# Altium schematic symbol library Inductors.SchLib: 24 symbols
Pins are listed as number, name and electrical type; pins without a type are passive.

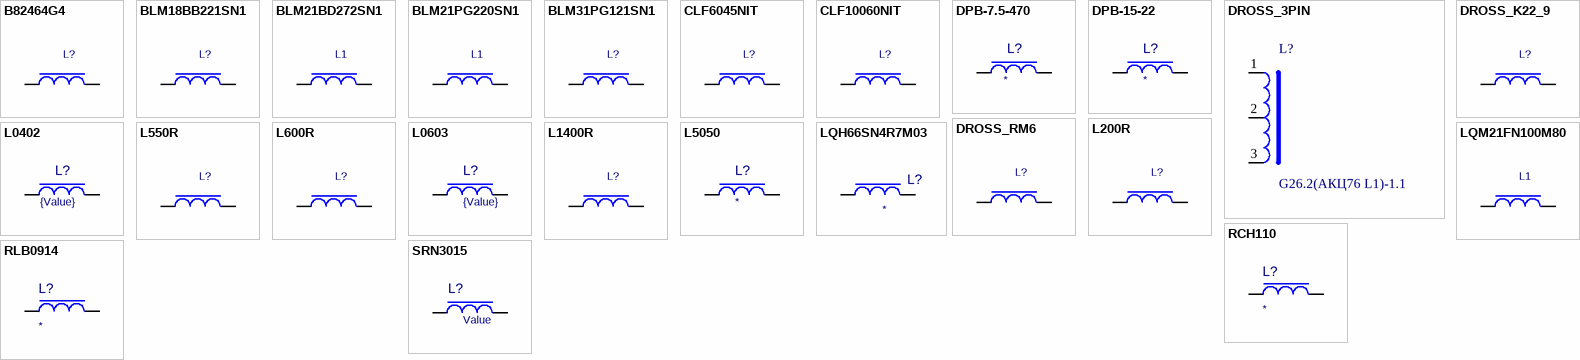
[diagram p0: symbols B82464G4 to SRN3015]

## B82464G4
designator L?  (value not drawn)
SMT power inductors; Value: *
footprint B82464G4 (SM Inductor; 2 Leads; Size 10x10 mm)
pins: 1, 2

## BLM18BB221SN1
designator L?  (value not drawn)
BLM18BB221SN1; Value: *
footprint L0603L
pins: 1, 2

## BLM21BD272SN1
designator L1  (value not drawn)
BLM21BD272SN1; Value: *
footprint L0805L
pins: 1, 2

## BLM21PG220SN1
designator L1  (value not drawn)
BLM21PG220SN1; Value: *
footprint L0805L
pins: 1, 2

## BLM31PG121SN1
designator L?  (value not drawn)
BLM31PG121SN1; Value: *
footprint L1206
pins: 1, 2

## CLF6045NIT
designator L?  (value not drawn)
SMT power inductors; Value: *
footprint CLF6045NIT
pins: 1, 2

## CLF10060NIT
designator L?  (value not drawn)
SMT power inductors; Value: *
footprint CLF10060NIT (SM Inductor; 2 Leads; Size 10x10 mm)
pins: 1, 2

## DPB-7.5-470
designator L?
footprint Inductor_38.1mm_22.9mm
pins: 2, 4

## DPB-15-22
designator L?
footprint Inductor_22.9mm-15.2mm
pins: 2, 4

## DROSS_3PIN
designator L?, comment G26.2(АКЦ76 L1)-1.1
Part Field 1: *; Part Field 2: *
footprint K24-3 (Дроссель)
pins: 1, 2, 3

## DROSS_K22_9
designator L?  (value not drawn)
B82464G4; Value: *
footprint K22-9-2 (Дроссель)
pins: 1, 2

## DROSS_RM6
designator L?  (value not drawn)
B82464G4; Value: *
footprint RM6-6_E-045-1 (RM Cores B65807)
pins: 2, 6

## L200R
designator L?  (value not drawn)
L200R; Value: *
footprint L200R
pins: 1, 2

## L0402
designator L?  value {Value}  (hidden comment: *)
footprint L0402
pins: 1, 2

## L550R
designator L?  (value not drawn)
L550R; Value: *
footprint L550R
pins: 1 I/OA0, 2 I/OB

## L600R
designator L?  (value not drawn)
L600R; Value: *
footprint L600R
pins: 1, 2

## L0603
designator L?  value {Value}  (hidden comment: *)
L0603
footprint L0603
pins: 1, 2

## L1400R
designator L?  (value not drawn)
L1400R; Value: *
footprint L1400R_L1400R-1
footprint L1400R_Primary
pins: 1 I/OA0, 2 I/OB

## L5050
designator L?
Value: *
footprint L5050
pins: 1, 2

## LQH66SN4R7M03
designator L?
footprint L2525
pins: 1, 2

## LQM21FN100M80
designator L1  (value not drawn)
LQM21FN100M80; Value: 10uH
footprint R0805
pins: 1, 2

## RCH110
designator L?
Part Field 1: *; Part Field 2: *
footprint RCH-110
pins: 1, 2

## RLB0914
designator L?
Part Field 1: *; Part Field 2: *
footprint RLB0914_H (radial induktor)
footprint RLB0914-V (radial induktor)
pins: 1, 2

## SRN3015
designator L?  (value not drawn)
Value: Value
footprint SRN3015 (Drossel)
pins: 1, 2